# Altium footprint library ECE453_PWR.PcbLib: 18 footprints (part 2 of 2)
Each footprint in its own frame and in the unit in brackets; x right, y up, seen from the top. Pads: shape width x height; smd on the part's side, far side on the other; paste and mask are expansions set on the pad; w line width, h text height; cw(c..) or ccw(c..) is an arc to the next point about the centre after c.
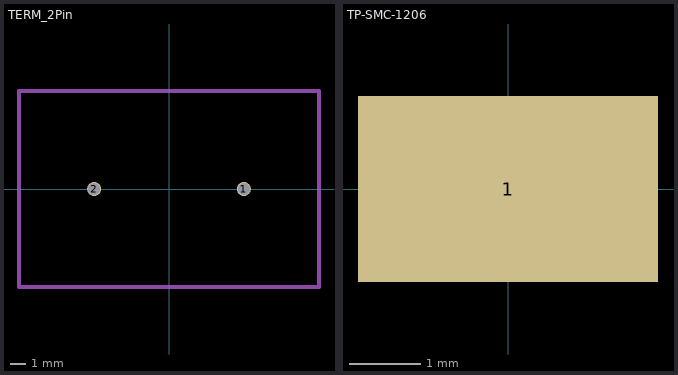
[diagram p1: the footprints below, top view; thin cyan lines are the x and y axes]

## TERM_2Pin [mm]
pads (2):
  round 0.9 hole 0.762: 1(4.765,0) 2(-4.765,0)
Mechanical 1:
  lines w0.254: -9.55,-6.25 -9.55,6.25 9.55,6.25 9.55,-6.25 -9.55,-6.25

## TP-SMC-1206 [mm] "Surface mount test point 1206"
height 1.25
pads (1):
  rect 4.2x2.6 smd mask+0: 1(0,0)
3D body "c-1625854-1-ba-3d.stp": height 1.22, standoff -0.03, extent -1.575,-0.787 1.625,0.813